# Altium footprint library IM_v1.0.PcbLib: 78 footprints (part 4 of 5)
Each footprint in its own frame and in the unit in brackets; x right, y up, seen from the top. Pads: shape width x height; smd on the part's side, far side on the other; paste and mask are expansions set on the pad; w line width, h text height; cw(c..) or ccw(c..) is an arc to the next point about the centre after c.
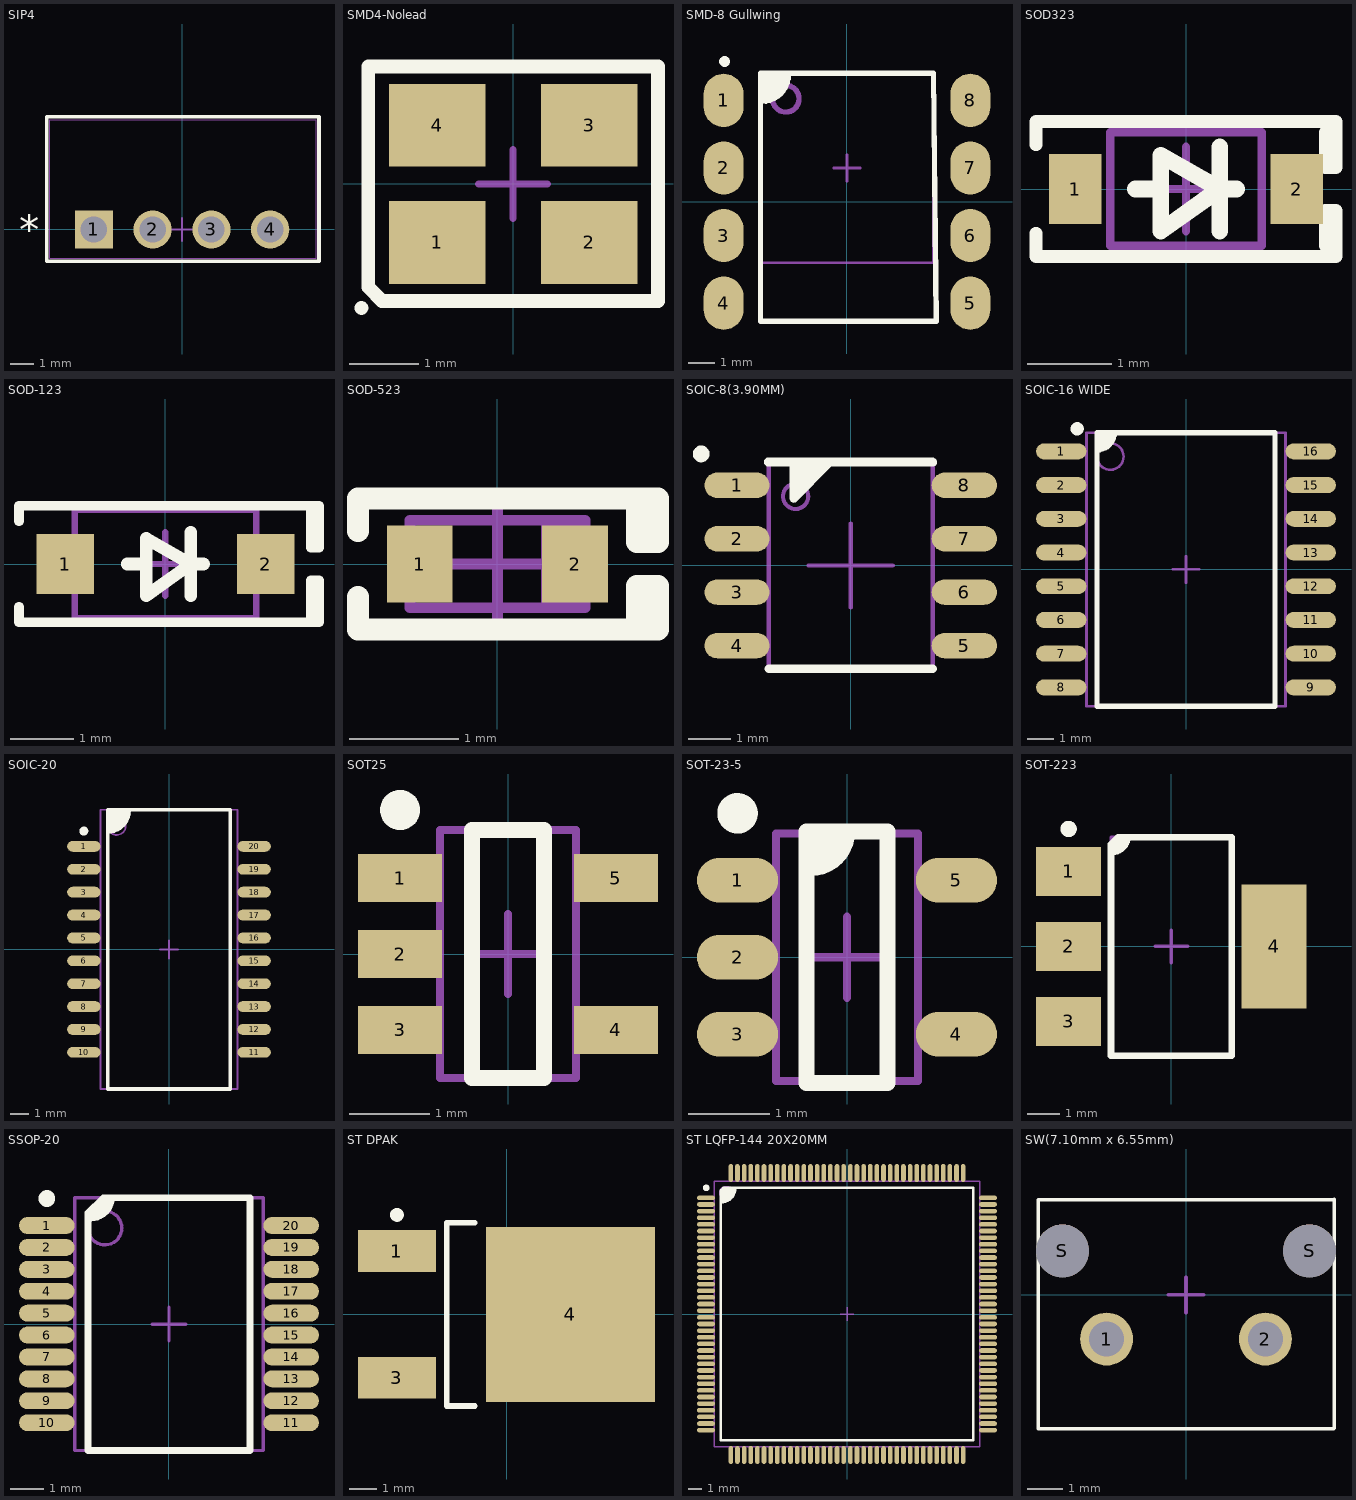
[diagram p3: the footprints below, top view; thin cyan lines are the x and y axes]

## SIP4 [mil]
pads (4):
  rect 65x65 / inner round 60 / far side rect 65x65 hole 45 paste-99999 mask+0: 1(-150,0)
  round 65 / inner round 60 / far side round 65 hole 45 paste-99999 mask+0: 2(-50,0) 3(50,0) 4(150,0)
Top Overlay:
  lines w6: -229.93,-54.1 233.07,-54.1 233.07,191.9 -229.93,191.9 -229.93,-54.1
  text "*" at -277.43,-25 h50
Mechanical 13:
  lines w1: -224.93,-49.1 -224.93,186.9 228.07,186.9 228.07,-49.1 -224.93,-49.1
Mechanical 7:
  lines w3.94: -19.69,0 19.68,0 ; 0,-19.68 0,19.68
3D body "RFM-0505S.STEP": height 374.02, standoff -181.1, extent -226.38,-51.18 226.38,185.04

## SMD4-Nolead [mm] "Crystal, 4-Leads, Body 2.50x3.20mm, Pitch 2.20mm, IPC Medium Density"
height 1
pads (4):
  rect 1.4x1.2 smd: 1(-1.1,-0.85) 2(1.1,-0.85) 3(1.1,0.85) 4(-1.1,0.85)
Top Overlay:
  circle w0.1: c-2.2,-1.8 r0.05
  lines w0.2: -2.1,-1.5 -1.9,-1.7 -1.1,-1.7 2.1,-1.7 2.1,1.7 -2.1,1.7 -2.1,-1.5
Mechanical 7:
  lines w0.1: -0.5,0 0.5,0 ; 0,-0.5 0,0.5
3D body "Abracon ABM8G.STEP": height 0.6, standoff 0, extent -1.61,-1.26 1.61,1.26

## SMD-8 Gullwing [mm] "Logic Output Optoisolator 1MHz Open Collector 5000Vrms 1 Channel  CMTI, 2.54mm Pitch, 6.5x7.12mm Body, 6-SMD Package"
height 3.9
pads (8):
  oval 1.5x2 smd: 1(-4.635,3.81) 2(-4.635,1.27) 3(-4.635,-1.27) 4(-4.635,-3.81) 5(4.635,-3.81) 6(4.635,-1.27) 7(4.635,1.27) 8(4.635,3.81)
Top Overlay:
  circle w0.2: c-4.6,5.27 r0.1
  region: -3.2,4.77 -3.2,3.77 -3.102,3.77 -2.908,3.808 -2.726,3.884 -2.563,3.993 -2.423,4.133 -2.314,4.296 -2.238,4.478 -2.2,4.672 -2.2,4.77
  lines w0.2: -3.2,3.77 ccw(c-3.2,4.77) -2.2,4.77 ; -3.25,-4.49 -3.25,4.83 0,4.83 3.25,4.83 3.35,-4.49 -3.25,-4.49
Route Tool Path (Mech13):
  circle w0.2: c-2.3,3.87 r0.5
  lines w0.1: 3.25,4.83 3.25,-2.29 -3.25,-2.29 -3.25,4.83 3.25,4.83 ; 3.25,4.83 3.25,4.83
Mechanical 7:
  lines w0.1: -0.5,1.27 0,1.27 ; 0,0.77 0,1.27 ; 0,1.77 0,1.27 ; 0.5,1.27 0,1.27
3D body "LTV-827S-TA1.stp": height 3.85, standoff 0, extent -5.08,-4.84 5.08,4.84

## SOD323 [mm] "SOD, 2-Leads, Body 1.25x2.50mm, IPC Medium Density"
height 0.8
pads (2):
  rect 0.625x0.83 smd: 1(-1.312,0) 2(1.312,0)
Top Overlay:
  lines w0.15: -1.778,-0.525 -1.778,-0.8 1.778,-0.8 ; -1.778,0.525 -1.778,0.8 1.778,0.8 ; 1.778,-0.8 1.651,-0.673 1.651,-0.254 1.778,-0.254 1.778,-0.8 ; 1.778,0.8 1.651,0.673 1.651,0.254 1.778,0.254 1.778,0.8
  lines w0.2: -0.6,0 -0.3,0 ; 0.4,-0.5 0.4,0.5 ; 0.6,0 0.4,0 ; 0.4,0 -0.3,0.4 -0.3,-0.5 0.4,0
Mechanical 13:
  lines w0.1: -0.9,-0.675 0.9,-0.675 0.9,0.675 -0.9,0.675 -0.9,-0.675
Mechanical 7:
  lines w0.1: -0.5,0 0.5,0 ; 0,-0.5 0,0.5
3D body "SOD-323.step": height 1.05, standoff 0, extent -1.36,-0.625 1.361,0.625

## SOD-123 [mm] "SOD, 2-Leads, Body 1.55x3.70mm, IPC Medium Density"
height 1.35
pads (2):
  rect 0.9x0.95 smd: 1(-1.575,0) 2(1.575,0)
Top Overlay:
  lines w0.15: -2.3,-0.675 -2.3,-0.916 2.286,-0.916 ; -2.3,0.675 -2.3,0.916 2.286,0.916 ; 2.286,-0.916 2.286,-0.254 2.413,-0.254 2.413,-0.916 2.286,-0.916 ; 2.286,0.916 2.413,0.916 2.413,0.254 2.286,0.254 2.286,0.916
  lines w0.2: -0.6,0 -0.3,0 ; 0.4,-0.5 0.4,0.5 ; 0.6,0 0.4,0 ; 0.4,0 -0.3,-0.5 -0.3,0.4 0.4,0
Mechanical 13:
  lines w0.1: -1.425,-0.85 1.425,-0.85 1.425,0.85 -1.425,0.85 -1.425,-0.85
Mechanical 7:
  lines w0.1: -0.5,0 0.5,0 ; 0,-0.5 0,0.5
3D body "SOD-123.STEP": height 1.35, standoff 0, extent -1.864,-0.775 1.864,0.775

## SOD-523 [mm] "Molded Diode, 2-Leads, Body 1.60x0.80mm, IPC Medium Density"
height 0.77
pads (2):
  rect 0.6x0.7 smd: 1(-0.71,0) 2(0.71,0)
Top Overlay:
  lines w0.2: -1.275,-0.3 -1.275,-0.6 1.469,-0.6 1.469,-0.2 1.275,-0.2 1.275,-0.6 ; -1.275,0.3 -1.275,0.6 1.469,0.6 1.469,0.2 1.275,0.2 1.275,0.6
Mechanical 13:
  rectangle: 0.4,-0.4 0.8,0.4
  lines w0.1: -0.8,-0.4 0.8,-0.4 0.8,0.4 -0.8,0.4 -0.8,-0.4
Mechanical 7:
  lines w0.1: -0.5,0 0.5,0 ; 0,-0.5 0,0.5
3D body "SOD-523.step": height 0.82, standoff -0.03, extent -0.8,-0.4 0.8,0.4

## SOIC-8(3.90MM) [mm] "Package SOIC-8, 8-Leades, 4.90 x 3.89 mm Body , Pitch 1.27 mm"
height 1.75
pads (8):
  oval 1.55x0.6 smd: 1(-2.7,1.905) 2(-2.7,0.635) 3(-2.7,-0.635) 4(-2.7,-1.905) 5(2.7,-1.905) 6(2.7,-0.635) 7(2.7,0.635) 8(2.7,1.905)
Top Overlay:
  circle w0.2: c-3.55,2.65 r0.1
  region: -1.947,2.352 -1.45,2.352 -1.45,1.6 -1.45,1.57 -1.417,1.519 -1.36,1.496 -1.301,1.507 -1.279,1.529 -0.456,2.352 1.947,2.352 1.967,2.352 2.004,2.367 2.033,2.396 2.048,2.432 2.048,2.452 2.048,2.472 2.033,2.509 2.004,2.538 1.967,2.553 1.947,2.553 -1.947,2.553 -1.989,2.553 -2.047,2.494 -2.047,2.411 -1.989,2.352
  lines w0.2: -1.947,-2.452 1.947,-2.452 ; -1.947,2.452 1.947,2.452 ; -1.35,2.45 -1.35,1.6 -0.5,2.45
Mechanical 13:
  circle w0.1: c-1.309,1.641 r0.3
  lines w0.1: -1.947,-2.452 -1.947,2.452 1.947,2.452 1.947,-2.452 -1.947,-2.452
Mechanical 7:
  lines w0.1: -1,0 0,0 ; 0,-1 0,0 ; 0,1 0,0 ; 1,0 0,0
3D body "TI - SOIC-8 - D008A v3.STEP": height 1.75, standoff 0, extent -3,-2.452 3,2.452

## SOIC-16 WIDE [mm] "SOIC, 16-Leads, Body 10.30x7.50mm, Pitch 1.27mm, IPC Medium Density"
height 2.65
pads (16):
  oval 1.9x0.6 smd: 1(-4.7,4.445) 2(-4.7,3.175) 3(-4.7,1.905) 4(-4.7,0.635) 5(-4.7,-0.635) 6(-4.7,-1.905) 7(-4.7,-3.175) 8(-4.7,-4.445) 9(4.7,-4.445) 10(4.7,-3.175) 11(4.7,-1.905) 12(4.7,-0.635) 13(4.7,0.635) 14(4.7,1.905) 15(4.7,3.175) 16(4.7,4.445)
Top Overlay:
  circle w0.25: c-4.1,5.295 r0.125
  region: -2.7,5.15 -2.7,4.9 -3.1,4.5 -3.35,4.5 -3.35,5.15
  lines w0.2: -2.7,5.15 cw(c-3.35,5.15) -3.35,4.5 ; -3.35,4.5 -3.35,4.5 ; -3.35,-5.15 3.35,-5.15 3.35,5.15 -3.35,5.15 -3.35,-5.15
Mechanical 13:
  circle w0.1: c-2.85,4.25 r0.5
  lines w0.1: -3.75,-5.15 3.75,-5.15 3.75,5.15 -3.75,5.15 -3.75,-5.15
Mechanical 7:
  lines w0.1: -0.5,0 0.5,0 ; 0,-0.5 0,0.5
3D body "SOIC-16 SiLabs Wide.STEP": height 2.65, standoff 0, extent -5.164,-5.15 5.164,5.15

## SOIC-20 [mm] "SOIC, 20-Leads, Body 15.41x7.49mm, Pitch 1.27mm, IPC Medium Density"
height 2.64
pads (20):
  oval 1.85x0.6 smd: 1(-4.725,5.715) 2(-4.725,4.445) 3(-4.725,3.175) 4(-4.725,1.905) 5(-4.725,0.635) 6(-4.725,-0.635) 7(-4.725,-1.905) 8(-4.725,-3.175) 9(-4.725,-4.445) 10(-4.725,-5.715) 11(4.725,-5.715) 12(4.725,-4.445) 13(4.725,-3.175) 14(4.725,-1.905) 15(4.725,-0.635) 16(4.725,0.635) 17(4.725,1.905) 18(4.725,3.175) 19(4.725,4.445) 20(4.725,5.715)
Top Overlay:
  circle w0.25: c-4.725,6.565 r0.125
  region: -3.4,7.7 -2.2,7.7 -2.2,7.582 -2.246,7.35 -2.337,7.132 -2.468,6.935 -2.635,6.768 -2.832,6.637 -3.05,6.546 -3.282,6.5 -3.4,6.5
  lines w0.184: -3.4,6.5 ccw(c-3.4,7.7) -2.2,7.7
  lines w0.2: -3.4,-7.75 3.4,-7.75 3.4,7.75 -3.4,7.75 -3.4,-7.75
Mechanical 13:
  circle w0.1: c-2.9,6.85 r0.5
  lines w0.1: -3.8,-7.75 3.8,-7.75 3.8,7.75 -3.8,7.75 -3.8,-7.75
Mechanical 7:
  lines w0.1: -0.5,0 0.5,0 ; 0,-0.5 0,0.5
3D body "ANALOG SOIC-20 RI-20-1.step": height 2.64, standoff 0, extent -5.152,-7.75 5.152,7.75

## SOT25 [mm] "SOT25, 5-Leads, Body 3.00x2.85mm, Pitch 0.95mm, IPC Medium Density"
height 1.45
pads (5):
  rect 1.05x0.6 smd: 1(-1.35,0.95) 2(-1.35,0) 3(-1.35,-0.95) 4(1.35,-0.95) 5(1.35,0.95)
Top Overlay:
  circle w0.25: c-1.35,1.8 r0.125
  lines w0.2: -0.45,-1.55 0.45,-1.55 0.45,1.55 -0.45,1.55 -0.45,-1.55
Mechanical 13:
  lines w0.1: -0.85,-1.55 0.85,-1.55 0.85,1.55 -0.85,1.55 -0.85,-1.55
Mechanical 7:
  lines w0.1: -0.5,0 0.5,0 ; 0,-0.5 0,0.5
3D body "DIODES SOT25.step": height 1.45, standoff 0, extent -1.5,-1.55 1.5,1.55

## SOT-23-5 [mm] "SOT23, 5-Leads, Body 2.90x2.80mm, Pitch 0.95mm, IPC Medium Density"
height 1.45
pads (5):
  oval 1x0.55 smd: 1(-1.35,0.95) 2(-1.35,0) 3(-1.35,-0.95) 4(1.35,-0.95) 5(1.35,0.95)
Top Overlay:
  circle w0.25: c-1.35,1.775 r0.125
  region: -0.5,1.55 0,1.55 0,1.4 -0.3,1.1 -0.5,1.1
  lines w0.2: -0.5,1.1 -0.45,1.1 ccw(c-0.45,1.55) 0,1.55 ; -0.5,-1.55 -0.5,1.55 0.5,1.55 0.5,-1.55 -0.5,-1.55
Mechanical 13:
  lines w0.1: -0.875,-1.525 -0.875,1.525 0.875,1.525 0.875,-1.525 -0.875,-1.525
Mechanical 7:
  lines w0.1: -0.5,0 0.5,0 ; 0,-0.5 0,0.5
3D body "SOT-23-5.STEP": height 1.5, standoff 0, extent -1.435,-1.425 1.386,1.475

## SOT-223 [mm] "SOT223, 4-Leads, Body 6.50x7.00mm (avg), Pitch 2.30mm, IPC Medium Density"
height 1.8
pads (4):
  rect 2x1.5 smd: 1(-3.15,2.3) 2(-3.15,0) 3(-3.15,-2.3)
  rect 2x3.8 smd: 4(3.15,0)
Top Overlay:
  circle w0.25: c-3.15,3.6 r0.125
  region: -1.65,3.275 -1.35,3.35 -1.35,3.2 -1.65,2.9 -1.85,2.9
  lines w0.2: -1.85,2.9 -1.8,2.9 ccw(c-1.8,3.35) -1.35,3.35 ; -1.85,-3.35 -1.85,3.125 -1.625,3.35 1.85,3.35 1.85,-3.35 -1.85,-3.35
Mechanical 13:
  lines w0.1: -1.85,-3.35 -1.85,3.35 1.85,3.35 1.85,-3.35 -1.85,-3.35
Mechanical 7:
  lines w0.1: -0.5,0 0.5,0 ; 0,-0.5 0,0.5
3D body "SOT-223.STEP": height 1.8, standoff 0, extent -3.516,-3.25 3.5,3.25

## SSOP-20 [mm] "SSOP, 20-Leads, Body 7.20x5.30mm, Pitch 0.65mm, IPC Medium Density"
height 2
pads (20):
  oval 1.65x0.5 smd: 1(-3.625,2.925) 2(-3.625,2.275) 3(-3.625,1.625) 4(-3.625,0.975) 5(-3.625,0.325) 6(-3.625,-0.325) 7(-3.625,-0.975) 8(-3.625,-1.625) 9(-3.625,-2.275) 10(-3.625,-2.925) 11(3.625,-2.925) 12(3.625,-2.275) 13(3.625,-1.625) 14(3.625,-0.975) 15(3.625,-0.325) 16(3.625,0.325) 17(3.625,0.975) 18(3.625,1.625) 19(3.625,2.275) 20(3.625,2.925)
Top Overlay:
  circle w0.25: c-3.625,3.725 r0.125
  region: -2.312,3.15 -2.192,3.15 -1.972,3.241 -1.803,3.41 -1.712,3.631 -1.712,3.75 -2.012,3.75 -2.312,3.45
  lines w0.2: -2.312,3.15 ccw(c-2.312,3.75) -1.712,3.75 ; -2.4,-3.75 2.4,-3.75 2.4,3.75 -1.95,3.75 -2.4,3.3 -2.4,-3.75
Mechanical 13:
  circle w0.1: c-1.9,2.85 r0.5
  lines w0.1: -2.8,-3.75 2.8,-3.75 2.8,3.75 -2.8,3.75 -2.8,-3.75
Mechanical 7:
  lines w0.1: -0.5,0 0.5,0 ; 0,-0.5 0,0.5
3D body "SSOP-20.STEP": height 1.97, standoff 0, extent -3.91,-3.6 3.911,3.6

## ST DPAK [mm] "D-PAK, 3-Pads, Body 6.20x6.66mm (max), IPC Medium Density"
height 2.4
pads (3):
  rect 2.8x1.5 smd: 1(-3.95,2.28) 3(-3.95,-2.28)
  rect 6.1x6.3 smd: 4(2.3,0)
Top Overlay:
  circle w0.25: c-3.95,3.58 r0.125
  lines w0.2: -1.15,-3.3 -2.15,-3.3 -2.15,3.3 -1.15,3.3
Mechanical 7:
  lines w0.1: -0.5,0 0.5,0 ; -0.4,0 0,0 ; 0,-0.5 0,0.5 ; 0,-0.4 0,0 ; 0,0.4 0,0 ; 0.4,0 0,0
3D body "ST DPAK.step": height 2.4, standoff 0, extent -4.791,-3.3 4.934,3.3

## ST LQFP-144 20X20MM [mm] "LQFP, 144-Leads, Body 20.00x20.00mm, Pitch 0.50mm, IPC Medium Density"
height 1.6
pads (144):
  oval 1.35x0.35 smd: 1(-10.62,8.75) 2(-10.62,8.25) 3(-10.62,7.75) 4(-10.62,7.25) 5(-10.62,6.75) 6(-10.62,6.25) 7(-10.62,5.75) 8(-10.62,5.25) 9(-10.62,4.75) 10(-10.62,4.25) 11(-10.62,3.75) 12(-10.62,3.25) 13(-10.62,2.75) 14(-10.62,2.25) 15(-10.62,1.75) 16(-10.62,1.25) 17(-10.62,0.75) 18(-10.62,0.25) 19(-10.62,-0.25) 20(-10.62,-0.75) 21(-10.62,-1.25) 22(-10.62,-1.75) 23(-10.62,-2.25) 24(-10.62,-2.75) 25(-10.62,-3.25) 26(-10.62,-3.75) 27(-10.62,-4.25) 28(-10.62,-4.75) 29(-10.62,-5.25) 30(-10.62,-5.75) 31(-10.62,-6.25) 32(-10.62,-6.75) 33(-10.62,-7.25) 34(-10.62,-7.75) 35(-10.62,-8.25) 36(-10.62,-8.75) 73(10.62,-8.75) 74(10.62,-8.25) 75(10.62,-7.75) 76(10.62,-7.25) 77(10.62,-6.75) 78(10.62,-6.25) 79(10.62,-5.75) 80(10.62,-5.25) 81(10.62,-4.75) 82(10.62,-4.25) 83(10.62,-3.75) 84(10.62,-3.25) 85(10.62,-2.75) 86(10.62,-2.25) 87(10.62,-1.75) 88(10.62,-1.25) 89(10.62,-0.75) 90(10.62,-0.25) 91(10.62,0.25) 92(10.62,0.75) 93(10.62,1.25) 94(10.62,1.75) 95(10.62,2.25) 96(10.62,2.75) 97(10.62,3.25) 98(10.62,3.75) 99(10.62,4.25) 100(10.62,4.75) 101(10.62,5.25) 102(10.62,5.75) 103(10.62,6.25) 104(10.62,6.75) 105(10.62,7.25) 106(10.62,7.75) 107(10.62,8.25) 108(10.62,8.75)
  oval 0.35x1.35 smd: 37(-8.75,-10.62) 38(-8.25,-10.62) 39(-7.75,-10.62) 40(-7.25,-10.62) 41(-6.75,-10.62) 42(-6.25,-10.62) 43(-5.75,-10.62) 44(-5.25,-10.62) 45(-4.75,-10.62) 46(-4.25,-10.62) 47(-3.75,-10.62) 48(-3.25,-10.62) 49(-2.75,-10.62) 50(-2.25,-10.62) 51(-1.75,-10.62) 52(-1.25,-10.62) 53(-0.75,-10.62) 54(-0.25,-10.62) 55(0.25,-10.62) 56(0.75,-10.62) 57(1.25,-10.62) 58(1.75,-10.62) 59(2.25,-10.62) 60(2.75,-10.62) 61(3.25,-10.62) 62(3.75,-10.62) 63(4.25,-10.62) 64(4.75,-10.62) 65(5.25,-10.62) 66(5.75,-10.62) 67(6.25,-10.62) 68(6.75,-10.62) 69(7.25,-10.62) 70(7.75,-10.62) 71(8.25,-10.62) 72(8.75,-10.62) 109(8.75,10.62) 110(8.25,10.62) 111(7.75,10.62) 112(7.25,10.62) 113(6.75,10.62) 114(6.25,10.62) 115(5.75,10.62) 116(5.25,10.62) 117(4.75,10.62) 118(4.25,10.62) 119(3.75,10.62) 120(3.25,10.62) 121(2.75,10.62) 122(2.25,10.62) 123(1.75,10.62) 124(1.25,10.62) 125(0.75,10.62) 126(0.25,10.62) 127(-0.25,10.62) 128(-0.75,10.62) 129(-1.25,10.62) 130(-1.75,10.62) 131(-2.25,10.62) 132(-2.75,10.62) 133(-3.25,10.62) 134(-3.75,10.62) 135(-4.25,10.62) 136(-4.75,10.62) 137(-5.25,10.62) 138(-5.75,10.62) 139(-6.25,10.62) 140(-6.75,10.62) 141(-7.25,10.62) 142(-7.75,10.62) 143(-8.25,10.62) 144(-8.75,10.62)
Top Overlay:
  circle w0.25: c-10.6,9.5 r0.125
  region: -8.4,9.445 -9.278,9.499 -9.465,9.302 -9.477,8.4 -9.1,8.4 -8.4,9.1
  lines w0.2: -9.5,8.4 ccw(c-9.5,9.5) -8.4,9.5 ; -9.5,-9.5 -9.5,9.3 -9.3,9.5 9.5,9.5 9.5,-9.5 -9.5,-9.5
Mechanical 13:
  lines w0.1: -10,-10 10,-10 10,10 -10,10 -10,-10
Route Tool Path (Mech13):
  circle w0.1: c-9.1,9.1 r0.5
Mechanical 7:
  lines w0.1: -0.5,0 0.5,0 ; 0,-0.5 0,0.5
3D body "ST LQFP-144-20x20mm.STEP": height 1.63, standoff 0, extent -11.013,-11.013 11.013,11.013

## SW(7.10mm x 6.55mm) [mm]
pads (4):
  round 1.5 hole 1: 1(-2.25,-1.25) 2(2.25,-1.25)
  round 1.5 hole 1.5: S(-3.5,1.25) S(3.5,1.25)
Top Overlay:
  lines w0.1: 4.19,-3.79 3,-3.79 -3,-3.79 -4.19,-3.79 -4.19,2.699 4.19,2.699 4.201,2.71 4.201,-3.779
Mechanical 7:
  lines w0.1: -0.5,0 0.5,0 ; 0,-0.5 0,0.5
3D body "141_TL1105RFxxxx.stp": height 7.3, standoff -3.7, extent -4.201,-7.46 4.201,2.71